# EAGLE library part NXP_PARTS_DS04E (library SMD-Components_E950)
DIL/CODE SWITCH
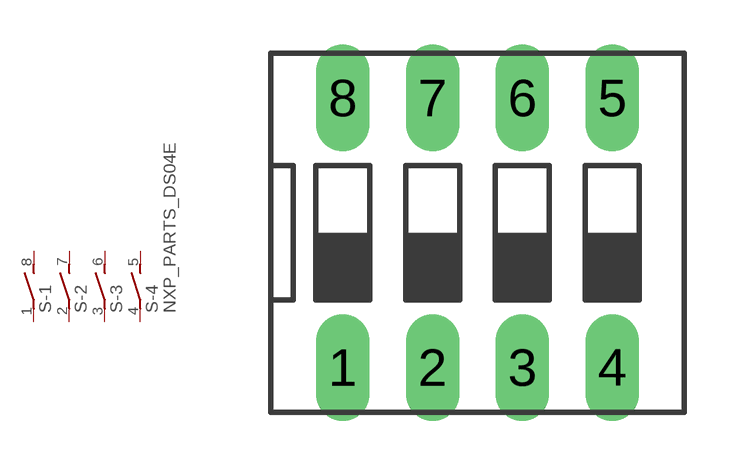
[diagram p1: symbol with the pads of NXP_DIP-SWITCH_2,54MM; footprint NXP_DIP-SWITCH_2,54MM]

Designator prefix S; gates -1=NXP_PARTS_S -2=NXP_PARTS_S -3=NXP_PARTS_S -4=NXP_PARTS_S+V

## NXP_PARTS_DS04E  [NXP_DIP-SWITCH_2,54MM]
1  -1:1  pas
2  -2:1  pas
3  -3:1  pas
4  -4:1  pas
5  -4:2  pas
6  -3:2  pas
7  -2:2  pas
8  -1:2  pas

## Footprint NXP_DIP-SWITCH_2,54MM (pad centres in mm)
DIL/CODE SWITCH Mors distributor Buerklin, 17G554
drill 1 pad 1.397 long: 1 -3.81,-3.81; 2 -1.27,-3.81; 3 1.27,-3.81; 4 3.81,-3.81; 5 3.81,3.81; 6 1.27,3.81; 7 -1.27,3.81; 8 -3.81,3.81